# Altium schematic symbol library SCH - MOTOR DRIVER - TI LM5109BSDNOPB.SCHLIB: 1 symbol
Pins are listed as number, name and electrical type; pins without a type are passive.

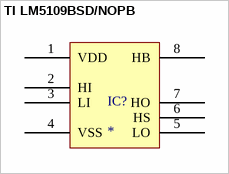
[diagram p0: symbol TI LM5109BSD/NOPB]

## TI LM5109BSD/NOPB
designator IC?
pins: 1 VDD, 2 HI, 3 LI, 4 VSS, 5 LO, 6 HS, 7 HO, 8 HB